# EAGLE library part TSW-S-21 (library con-samtec-tsw)
HEADER
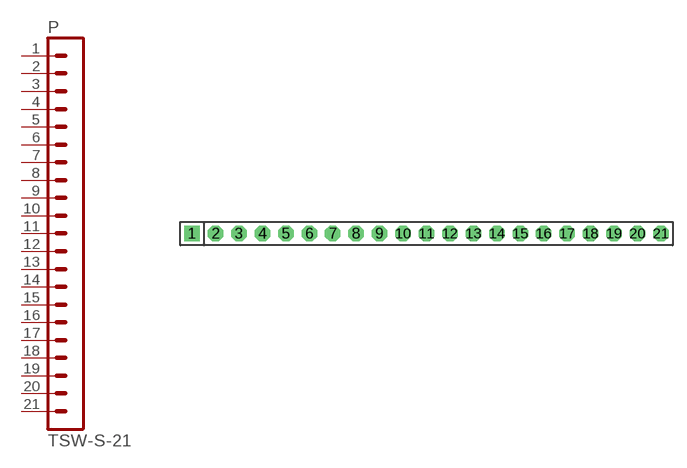
[diagram p15: symbol with the pads of TSW-S-21; footprint TSW-S-21]

Designator prefix P

## TSW-S-21  [TSW-S-21]
1  1  pas
2  2  pas
3  3  pas
4  4  pas
5  5  pas
6  6  pas
7  7  pas
8  8  pas
9  9  pas
10  10  pas
11  11  pas
12  12  pas
13  13  pas
14  14  pas
15  15  pas
16  16  pas
17  17  pas
18  18  pas
19  19  pas
20  20  pas
21  21  pas

## Footprint TSW-S-21 (pad centres in mm)
HEADER
drill 0.914 pad 1.676 square: 1 -25.4,0
drill 0.914 pad 1.676 octagon: 2 -22.86,0; 3 -20.32,0; 4 -17.78,0; 5 -15.24,0; 6 -12.7,0; 7 -10.16,0; 8 -7.62,0; 9 -5.08,0; 10 -2.54,0; 11 0,0; 12 2.54,0; 13 5.08,0; 14 7.62,0; 15 10.16,0; 16 12.7,0; 17 15.24,0; 18 17.78,0; 19 20.32,0; 20 22.86,0; 21 25.4,0